# Altium footprint library Tantalum Capacitor.PcbLib: 19 footprints (part 2 of 2)
Each footprint in its own frame and in the unit in brackets; x right, y up, seen from the top. Pads: shape width x height; smd on the part's side, far side on the other; paste and mask are expansions set on the pad; w line width, h text height; cw(c..) or ccw(c..) is an arc to the next point about the centre after c.
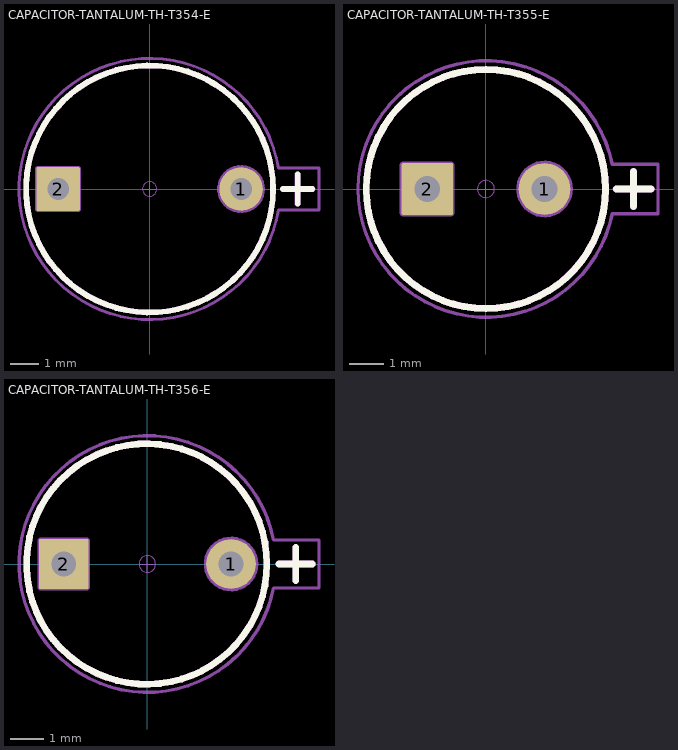
[diagram p1: the footprints below, top view; thin cyan lines are the x and y axes]

## CAPACITOR-TANTALUM-TH-T354-E [mm] "Tantalum Capacitor TH Series T354 - Pitch 250mils, diam 5.5, lead diam. 0.55"
height 10.076
pads (2):
  round 1.51 hole 0.75 mask+0.05: 1(3.175,0)
  rrect5% 1.51x1.51 hole 0.75 mask+0.05: 2(-3.175,0)
Top Overlay:
  circle w0.2: c0,0 r4.285
  lines w0.2: 4.63,0 5.646,0 ; 5.138,-0.508 5.138,0.508
Top Component Outline:
  circle w0.2: c0,0 r4.285
  lines w0.2: 4.645,0 5.661,0 ; 5.135,-0.508 5.135,0.508
  text "'.Comment'" at -2.226,-3.402 h1
Top Courtyard:
  lines w0.1: 4.472,-0.725 cw(c0,0) 4.472,0.725 5.879,0.725 5.879,-0.725 4.473,-0.725
Top Component Center:
  circle w0.012: c0,0 r0.25
  lines w0.012: -0.25,0 0,0 ; 0,-0.25 0,0 ; 0,0.25 0,0 ; 0.25,0 0,0
Top Designator:
  text "'.Designator'" at -2.442,-0.224 h1
Top Assembly:
  circle w0.2: c0,0 r4.285
  circle w0.2: c3.175,0 r0.73
  lines w0.2: 4.627,0 5.643,0 ; 5.135,-0.508 5.135,0.508 ; -3.875,-0.7 -2.475,-0.7 -2.475,0.7 -3.875,0.7 -3.875,-0.7
  text "'.Designator'" at -2.442,-0.224 h1
3D body "CAPACITOR-TH-T354-E.step": height 10.08, standoff -5.68, extent -3.45,-2.75 3.45,2.75

## CAPACITOR-TANTALUM-TH-T355-E [mm] "Tantalum Capacitor TH Series T355 - Pitch 125mils, diam 7, lead diam. 0.55"
height 9.866
pads (2):
  round 1.51 hole 0.75 mask+0.05: 1(1.714,0)
  rrect5% 1.51x1.51 hole 0.75 mask+0.05: 2(-1.714,0)
Top Overlay:
  circle w0.2: c0,0 r3.5
  lines w0.2: 3.81,0 4.826,0 ; 4.318,-0.508 4.318,0.508
Top Component Outline:
  circle w0.2: c0,0 r3.5
  lines w0.2: 3.825,0 4.841,0 ; 4.315,-0.508 4.315,0.508
  text "'.Comment'" at -2.24,-2.452 h1
Top Courtyard:
  lines w0.1: 3.694,-0.727 cw(c0.011,0) 3.694,0.727 5.034,0.727 5.034,-0.727 3.694,-0.727
Top Component Center:
  circle w0.012: c0,0 r0.25
  lines w0.012: -0.25,0 0,0 ; 0,-0.25 0,0 ; 0,0.25 0,0 ; 0.25,0 0,0
Top Designator:
  text "'.Designator'" at -2.442,-0.224 h1
Top Assembly:
  circle w0.2: c0,0 r3.5
  circle w0.2: c1.714,0 r0.73
  lines w0.2: 3.807,0 4.823,0 ; 4.315,-0.508 4.315,0.508 ; -2.425,-0.7 -1.025,-0.7 -1.025,0.7 -2.425,0.7 -2.425,-0.7
  text "'.Designator'" at -2.442,-0.224 h1
3D body "CAPACITOR-TH-T355-E.step": height 9.87, standoff -5.89, extent -3.495,-2.75 3.495,2.75

## CAPACITOR-TANTALUM-TH-T356-E [mm] "Tantalum Capacitor TH Series T356 - Pitch 200mils, diam 5.5, lead diam. 0.55"
height 10.066
pads (2):
  round 1.51 hole 0.75 mask+0.05: 1(2.54,0)
  rrect5% 1.51x1.51 hole 0.75 mask+0.05: 2(-2.54,0)
Top Overlay:
  circle w0.2: c-0.02,0 r3.65
  lines w0.2: 3.995,0 5.011,0 ; 4.503,-0.508 4.503,0.508
Top Component Outline:
  circle w0.2: c-0.02,0 r3.65
  lines w0.2: 4.01,0 5.026,0 ; 4.5,-0.508 4.5,0.508
  text "'.Comment'" at -2.226,-2.827 h1
Top Courtyard:
  lines w0.1: 3.827,-0.728 cw(c0,0) 3.827,0.725 5.21,0.725 5.21,-0.728 3.827,-0.728
Top Component Center:
  circle w0.012: c0,0 r0.25
  lines w0.012: -0.25,0 0,0 ; 0,-0.25 0,0 ; 0,0.25 0,0 ; 0.25,0 0,0
Top Designator:
  text "'.Designator'" at -2.462,-0.224 h1
Top Assembly:
  circle w0.2: c-0.02,0 r3.65
  circle w0.2: c2.54,0 r0.73
  lines w0.2: 3.992,0 5.008,0 ; 4.5,-0.508 4.5,0.508 ; -3.24,-0.7 -1.84,-0.7 -1.84,0.7 -3.24,0.7 -3.24,-0.7
  text "'.Designator'" at -2.462,-0.224 h1
3D body "CAPACITOR-TH-T356-E.step": height 10.07, standoff -5.69, extent -2.815,-2.75 2.815,2.75